# EAGLE library part N2540-6V0C-RB-WG (library NicksParts)
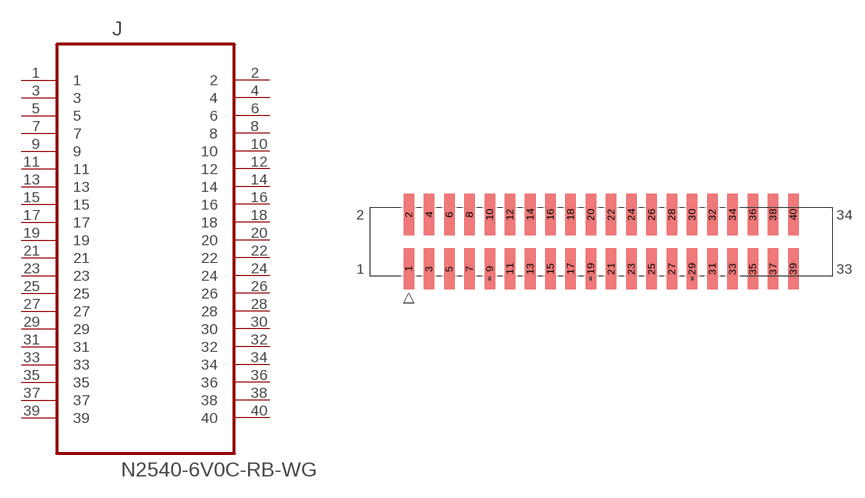
[diagram p9: symbol with the pads of N2540-6V0C-RB-WG; footprint N2540-6V0C-RB-WG]

Designator prefix J

## N2540-6V0C-RB-WG  [N2540-6V0C-RB-WG]
1  1  pas
2  2  pas
3  3  pas
4  4  pas
5  5  pas
6  6  pas
7  7  pas
8  8  pas
9  9  pas
10  10  pas
11  11  pas
12  12  pas
13  13  pas
14  14  pas
15  15  pas
16  16  pas
17  17  pas
18  18  pas
19  19  pas
20  20  pas
21  21  pas
22  22  pas
23  23  pas
24  24  pas
25  25  pas
26  26  pas
27  27  pas
28  28  pas
29  29  pas
30  30  pas
31  31  pas
32  32  pas
33  33  pas
34  34  pas
35  35  pas
36  36  pas
37  37  pas
38  38  pas
39  39  pas
40  40  pas

## Footprint N2540-6V0C-RB-WG (pad centres in mm)
smd 1.321 x 5.182: 1 -24.13,-3.404; 2 -24.13,3.404; 3 -21.59,-3.404; 4 -21.59,3.404; 5 -19.05,-3.404; 6 -19.05,3.404; 7 -16.51,-3.404; 8 -16.51,3.404; 9 -13.97,-3.404; 10 -13.97,3.404; 11 -11.43,-3.404; 12 -11.43,3.404; 13 -8.89,-3.404; 14 -8.89,3.404; 15 -6.35,-3.404; 16 -6.35,3.404; 17 -3.81,-3.404; 18 -3.81,3.404; 19 -1.27,-3.404; 20 -1.27,3.404; 21 1.27,-3.404; 22 1.27,3.404; 23 3.81,-3.404; 24 3.81,3.404; 25 6.35,-3.404; 26 6.35,3.404; 27 8.89,-3.404; 28 8.89,3.404; 29 11.43,-3.404; 30 11.43,3.404; 31 13.97,-3.404; 32 13.97,3.404; 33 16.51,-3.404; 34 16.51,3.404; 35 19.05,-3.404; 36 19.05,3.404; 37 21.59,-3.404; 38 21.59,3.404; 39 24.13,-3.404; 40 24.13,3.404